# Altium schematic symbol library BL8503_SOT23-3.SchLib: 1 symbol
Pins are listed as number, name and electrical type; pins without a type are passive.

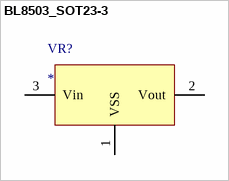
[diagram p0: symbol BL8503_SOT23-3]

## BL8503_SOT23-3
designator VR?
pins: 1 VSS, 2 Vout, 3 Vin